# EAGLE library part MCP16323T-180E/NG (library wicked-device)
IC, High-Efficiency Synchronous Buck, 3A, 24VIN, 1.8V, 16VQFN
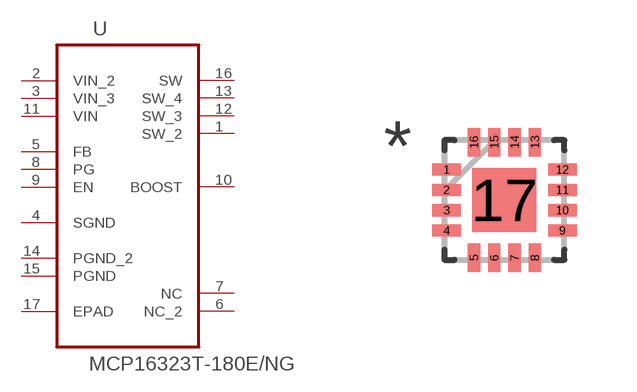
[diagram p21: symbol with the pads of QFN50P300X300X100-17N; footprint QFN50P300X300X100-17N]

Designator prefix U

## MCP16323T-180E/NG (MPN: MCP16323T-180E/NG; OC_FARNELL: 2080517; OC_NEWARK: 76T2226; PACKAGE: QFN-16; SUPPLIER: Microchip)  [QFN50P300X300X100-17N]
1  SW_2  pas
2  VIN_2  in
3  VIN_3  in
4  SGND  pas
5  FB  in
6  NC_2  nc
7  NC  nc
8  PG  pas
9  EN  in
10  BOOST  pas
11  VIN  in
12  SW_3  pas
13  SW_4  pas
14  PGND_2  pas
15  PGND  pas
16  SW  pas
17  EPAD  pas

## Footprint QFN50P300X300X100-17N (pad centres in mm)
smd 0.711 x 0.305: 1 -1.448,0.762; 2 -1.448,0.254; 3 -1.448,-0.254; 4 -1.448,-0.762; 9 1.448,-0.762; 10 1.448,-0.254; 11 1.448,0.254; 12 1.448,0.762
smd 0.305 x 0.711: 5 -0.762,-1.448; 6 -0.254,-1.448; 7 0.254,-1.448; 8 0.762,-1.448; 13 0.762,1.448; 14 0.254,1.448; 15 -0.254,1.448; 16 -0.762,1.448
smd 1.6 x 1.6: 17 0,0